# Altium footprint library pedals-SMD.PCBLIB: 11 footprints
Each footprint in its own frame and in the unit in brackets; x right, y up, seen from the top. Pads: shape width x height; smd on the part's side, far side on the other; paste and mask are expansions set on the pad; w line width, h text height; cw(c..) or ccw(c..) is an arc to the next point about the centre after c.
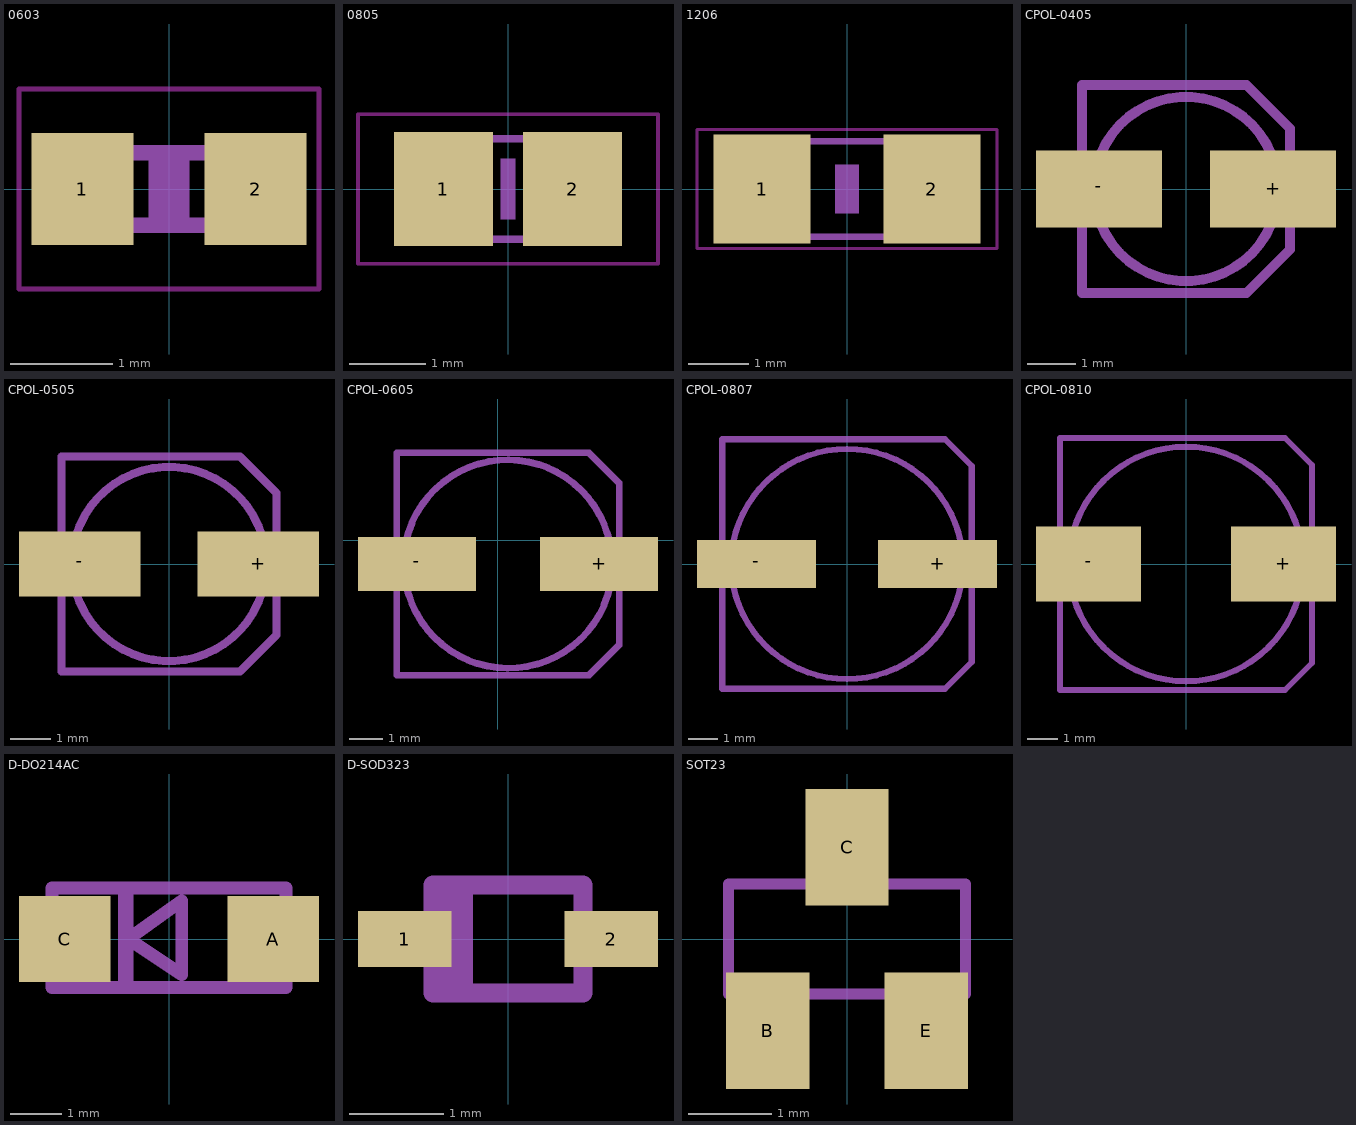
[diagram p0: the footprints below, top view; thin cyan lines are the x and y axes]

## 0603 [mm]
pads (2):
  rect 1x1.1 smd: 1(-0.85,0) 2(0.85,0)
Keep-Out Layer:
  lines w0.051: -1.473,-0.983 1.473,-0.983 1.473,0.983 -1.473,0.983 -1.473,-0.983
Mechanical 8:
  rectangle: -0.2,-0.4 0.2,0.4
Mechanical 18:
  rectangle: 0.432,-0.432 0.838,0.432
  rectangle: -0.838,-0.432 -0.432,0.432
  lines w0.152: -0.432,-0.356 0.432,-0.356 ; -0.432,0.356 0.432,0.356

## 0805 [mm]
pads (2):
  rect 1.3x1.5 smd: 1(-0.85,0) 2(0.85,0)
Keep-Out Layer:
  lines w0.051: -1.973,-0.983 1.973,-0.983 1.973,0.983 -1.973,0.983 -1.973,-0.983
Mechanical 2:
  rectangle: -1.092,-0.724 -0.342,0.726
  rectangle: 0.356,-0.724 1.106,0.726
  lines w0.102: -0.381,0.66 0.381,0.66 ; -0.356,-0.66 0.381,-0.66
Mechanical 8:
  rectangle: -0.1,-0.4 0.1,0.4

## 1206 [mm]
pads (2):
  rect 1.6x1.8 smd: 1(-1.4,0) 2(1.4,0)
Keep-Out Layer:
  lines w0.051: -2.473,-0.983 2.473,-0.983 2.473,0.983 -2.473,0.983 -2.473,-0.983
Mechanical 2:
  rectangle: -1.702,-0.851 -0.952,0.849
  rectangle: 0.952,-0.849 1.702,0.851
  lines w0.102: -0.965,-0.787 0.965,-0.787 ; -0.965,0.787 0.965,0.787
Mechanical 8:
  rectangle: -0.2,-0.4 0.2,0.4

## CPOL-0405 [mm]
pads (2):
  rect 2.6x1.6 smd: +(1.8,0) -(-1.8,0)
Mechanical 2:
  lines w0.203: -2.15,-1.1 -2.15,-2.15 1.25,-2.15 2.15,-1.25 2.15,-1.05 ; -2.15,1.1 -2.15,2.15 1.25,2.15 2.15,1.25 2.15,1.1 ; -1.65,-0.95 ccw(c0,0) 1.65,-0.95 ; -1.65,0.95 cw(c0,0) 1.65,0.95
Mechanical 18:
  lines w0.203: -2.15,-1.1 -2.15,1.1 ; -1.65,-0.95 cw(c0,0) -1.65,0.95 ; 1.65,-0.95 ccw(c0,0) 1.65,0.95 ; 2.15,-1.05 2.15,1.1

## CPOL-0505 [mm]
pads (2):
  rect 3x1.6 smd: +(2.2,0) -(-2.2,0)
Mechanical 2:
  lines w0.203: -2.65,-1.1 -2.65,-2.65 1.75,-2.65 2.65,-1.75 2.65,-1.1 ; -2.65,1.1 -2.65,2.65 1.75,2.65 2.65,1.75 2.65,1.1 ; -2.2,-0.95 ccw(c0,0) 2.2,-0.95 ; -2.2,0.95 cw(c0,0) 2.2,0.95
Mechanical 18:
  lines w0.203: -2.65,-1.1 -2.65,1.1 ; -2.2,-0.95 cw(c0,0) -2.2,0.95 ; 2.2,-0.95 ccw(c0,0) 2.2,0.95 ; 2.65,-1.1 2.65,1.1

## CPOL-0605 [mm]
pads (2):
  rect 3.5x1.6 smd: +(3,-0.7) -(-2.4,-0.7)
Mechanical 2:
  lines w0.203: -3,-1.8 -3,-4 2.7,-4 3.6,-3.1 3.6,-1.8 ; -3,0.4 -3,2.6 2.7,2.6 3.6,1.7 3.6,0.4 ; -2.65,-1.6 ccw(c0.308,-0.7) 3.25,-1.65 ; -2.65,0.25 cw(c0.292,-0.7) 3.25,0.2
Mechanical 18:
  lines w0.203: -3,-1.8 -3,0.4 ; -2.65,-1.6 cw(c0.3,-0.675) -2.65,0.25 ; 3.25,-1.65 ccw(c0.3,-0.725) 3.25,0.2 ; 3.6,-1.8 3.6,0.4

## CPOL-0807 [mm]
pads (2):
  rect 4x1.6 smd: +(3.05,0) -(-3.05,0)
Mechanical 2:
  lines w0.203: -4.2,-1.1 -4.2,-4.2 3.3,-4.2 4.2,-3.3 4.2,-1.1 ; -4.2,1.1 -4.2,4.2 3.3,4.2 4.2,3.3 4.2,1.1 ; -3.75,-1.05 ccw(c0,0.025) 3.75,-1.05 ; -3.75,1.05 cw(c0,-0.025) 3.75,1.05
Mechanical 18:
  lines w0.203: -4.2,-1.1 -4.2,1.1 ; -3.75,-1.05 cw(c0,0) -3.75,1.05 ; 3.75,-1.05 ccw(c0,0) 3.75,1.05 ; 4.2,-1.1 4.2,1.1

## CPOL-0810 [mm]
pads (2):
  rect 3.5x2.5 smd: +(3.25,0) -(-3.25,0)
Mechanical 2:
  lines w0.203: -4.2,-1.5 -4.2,-4.2 3.3,-4.2 4.2,-3.3 4.2,-1.5 ; -4.2,1.5 -4.2,4.2 3.3,4.2 4.2,3.3 4.2,1.5 ; -3.65,-1.4 ccw(c0,0) 3.65,-1.4 ; -3.65,1.4 cw(c0,0) 3.65,1.4
Mechanical 18:
  lines w0.203: -4.2,-1.5 -4.2,1.5 ; -3.65,-1.4 cw(c0,0) -3.65,1.4 ; 3.65,-1.4 ccw(c0,0) 3.65,1.4 ; 4.2,-1.5 4.2,1.5

## D-DO214AC [mm]
pads (2):
  rect 1.8x1.7 smd: A(2.05,0) C(-2.05,0)
Mechanical 2:
  rectangle: -1,-1.05 -0.7,1.05
  lines w0.254: -0.8,0 0.25,0.75 0.25,-0.7 -0.8,0
Mechanical 18:
  rectangle: -2.65,-0.7 -2.4,0.65
  rectangle: 2.4,-0.7 2.65,0.65
  lines w0.254: -2.3,-0.95 2.3,-0.95 2.3,1 -2.3,1 -2.3,-0.95

## D-SOD323 [mm]
pads (2):
  rect 1x0.6 smd: 1(-1.1,0) 2(1.1,0)
Mechanical 18:
  rectangle: -1.35,-0.2 -0.9,0.2
  rectangle: 0.9,-0.2 1.35,0.2
  rectangle: -0.75,-0.575 -0.375,0.575
  lines w0.203: -0.8,-0.575 0.8,-0.575 0.8,0.575 -0.8,0.575 -0.8,-0.575

## SOT23 [mm]
pads (3):
  rect 1x1.4 smd: B(-0.95,-1.1) C(0,1.1) E(0.95,-1.1)
Mechanical 2:
  rectangle: -0.229,0.711 0.229,1.295
  rectangle: 0.711,-1.295 1.168,-0.711
  rectangle: -1.168,-1.295 -0.711,-0.711
  lines w0.127: -1.422,-0.66 1.422,-0.66 1.422,0.66 -1.422,0.66 -1.422,-0.66